# Altium schematic symbol library DAQSchlib.SchLib: 8 symbols
Pins are listed as number, name and electrical type; pins without a type are passive.

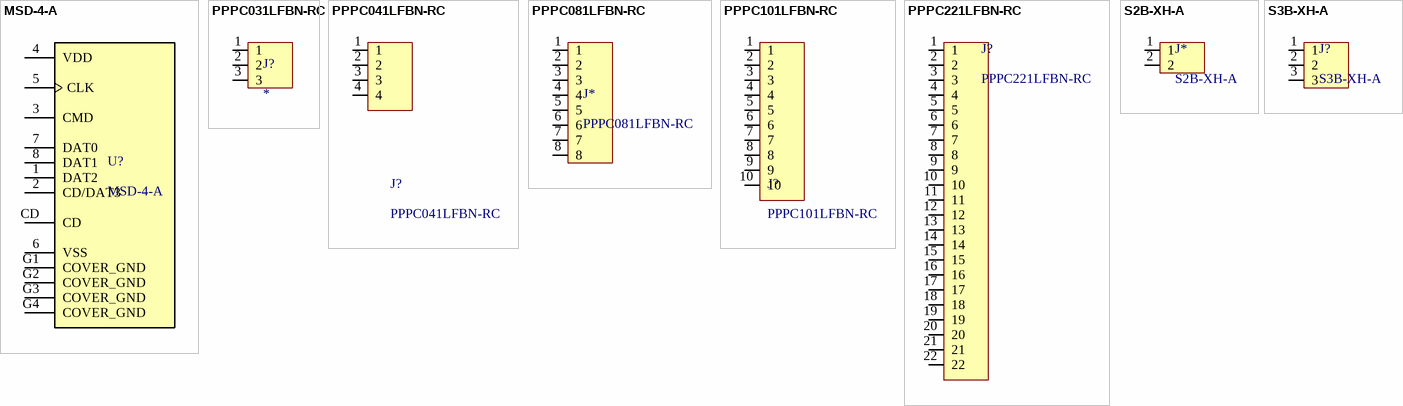
[diagram p0: symbols MSD-4-A to S3B-XH-A]

## MSD-4-A
designator U?
Memory & Sim Conn, Micro Sd, 9P, Push in Rohs Compliant: Yes; Manufacturer: Same Sky; Number of Contacts: 9; Supplier: DigiKey; Supplier Part Number: 2223-MSD-4-ACT-ND; Manufacturer Part Number: MSD-4-A; RoHS: Compliant; Category: Card Edge Connectors; Stock: 19060; Pricing: 1=0.36, 10=0.318, 25=0.3036, 50=0.2926, 100=0.2822, 250=0.26896, 500=0.25938 (USD); Lifecycle Status: Production; REACH SVHC: Yes; ComponentLink1URL: https://datasheet.octopart.com:443/MSD-4-A-Same-Sky-datasheet-188826395.pdf?src-supplier=Same+Sky; ComponentLink1Description: https://datasheet.octopart.com:443/MSD-4-A-Same-Sky-datasheet-188826395.pdf?src-supplier=Same+Sky; ComponentLink2URL: https://datasheet.octopart.com:443/MSD-4-A-Same-Sky-datasheet-181916841.pdf?src-supplier=Same+Sky; ComponentLink2Description: https://datasheet.octopart.com:443/MSD-4-A-Same-Sky-datasheet-181916841.pdf?src-supplier=Same+Sky; ComponentLink3URL: https://datasheet.octopart.com:443/MSD-4-A-Same-Sky-datasheet-181916843.pdf?src-supplier=Same+Sky; ComponentLink3Description: https://datasheet.octopart.com:443/MSD-4-A-Same-Sky-datasheet-181916843.pdf?src-supplier=Same+Sky; ComponentLink4URL: https://datasheet.octopart.com:443/MSD-4-A-Same-Sky-datasheet-190142353.pdf?src-supplier=element14+APAC; ComponentLink4Description: https://datasheet.octopart.com:443/MSD-4-A-Same-Sky-datasheet-190142353.pdf?src-supplier=element14+APAC; ComponentLink5URL: https://datasheet.octopart.com:443/MSD-4-A-Same-Sky-datasheet-187906758.pdf?src-supplier=Master+Electronics; ComponentLink5Description: https://datasheet.octopart.com:443/MSD-4-A-Same-Sky-datasheet-187906758.pdf?src-supplier=Master+Electronics; ComponentLink6URL: https://datasheet.octopart.com:443/MSD-4-A-Same-Sky-datasheet-189105038.pdf?src-supplier=Master+Electronics; ComponentLink6Description: https://datasheet.octopart.com:443/MSD-4-A-Same-Sky-datasheet-189105038.pdf?src-supplier=Master+Electronics; ComponentLink7URL: https://octopart.com:443/opatz8j6/c1?t=OklLJ3Cn6EJ58qiIsR4ETs59k0pdJoySAJ4KZqxoiusSZQYTb9S8pusi1kgkJn5eC7RsB0VALl2X_PnRwtqyvDB9WfpMQgoLmisnEu2FRjVmus4JdyiPcntT2ElvTa2Of7vsKFoACo-SfHWnp4OJdzR1DmxOxBkV3iRUkF5aYH_v20eMe6qpQUN2qCpoFUDPB6zoA_4aKyXfpmhYkePRKBkS7QLt_3LdaQQnbCvF_fANTX1CXXfyg_7OR_j_j_PKcPm-CB_VFeBUVIiUCcoA-Sa0tfkOnAOTqaF891NWlGE7F92Bh78ecS-7oOS_kN434D-9grUeGaxT0KruoTvjdSNsUoxpTdBTUQ&src-supplier=Compliance+Statements; ComponentLink7Description: https://octopart.com:443/opatz8j6/c1?t=OklLJ3Cn6EJ58qiIsR4ETs59k0pdJoySAJ4KZqxoiusSZQYTb9S8pusi1kgkJn5eC7RsB0VALl2X_PnRwtqyvDB9WfpMQgoLmisnEu2FRjVmus4JdyiPcntT2ElvTa2Of7vsKFoACo-SfHWnp4OJdzR1DmxOxBkV3iRUkF5aYH_v20eMe6qpQUN2qCpoFUDPB6zoA_4aKyXfpmhYkePRKBkS7QLt_3LdaQQnbCvF_fANTX1CXXfyg_7OR_j_j_PKcPm-CB_VFeBUVIiUCcoA-Sa0tfkOnAOTqaF891NWlGE7F92Bh78ecS-7oOS_kN434D-9grUeGaxT0KruoTvjdSNsUoxpTdBTUQ&src-supplier=Compliance+Statements; ComponentLink8URL: https://octopart.com:443/opatz8j6/c1?t=56VKgEEM5Ew_b_00VnAHw7m7J80biGly62Ot5MveOjJfWQiiiFo75OsdVL3D4ctiIjdn5qZd2GKSn4ysF2A2X9SB5PMX9rtFMLqOLzabYRrLW1sdJvZjNYOtT52_2pyWzszDwX6GT9AuysY_Kac0kr-nKqmfJaGQBFJ4GnLzMHt7nU83_GCq3q5bnzZvOe8VO7x6awYehHWuDfbSZSptEeVzJv9jqL2KHhRIzyb0l4El-_pmLBmXLl8q6t2RCz32btwZwTVfma5VOd_HWAJjK0S5XNNJTFLCtN6-e-vJLnB3S9C8OJldtEio3ep_838gUXxW9g0B7S6xUQkW2QSr6mdT9vw6YhCHQg&src-supplier=Compliance+Statements; ComponentLink8Description: https://octopart.com:443/opatz8j6/c1?t=56VKgEEM5Ew_b_00VnAHw7m7J80biGly62Ot5MveOjJfWQiiiFo75OsdVL3D4ctiIjdn5qZd2GKSn4ysF2A2X9SB5PMX9rtFMLqOLzabYRrLW1sdJvZjNYOtT52_2pyWzszDwX6GT9AuysY_Kac0kr-nKqmfJaGQBFJ4GnLzMHt7nU83_GCq3q5bnzZvOe8VO7x6awYehHWuDfbSZSptEeVzJv9jqL2KHhRIzyb0l4El-_pmLBmXLl8q6t2RCz32btwZwTVfma5VOd_HWAJjK0S5XNNJTFLCtN6-e-vJLnB3S9C8OJldtEio3ep_838gUXxW9g0B7S6xUQkW2QSr6mdT9vw6YhCHQg&src-supplier=Compliance+Statements
footprint CUI_MSD-4-A
pins: 1 DAT2, 2 CD/DAT3, 3 CMD, 4 VDD, 5 CLK, 6 VSS, 7 DAT0, 8 DAT1, CD, G1 COVER_GND (power), G2 COVER_GND (power), G3 COVER_GND (power), G4 COVER_GND (power)

## PPPC031LFBN-RC
designator J?
Board Connector, 3 Contact(s), 1 Row(s), Female, Straight, 0.1 inch Pitch, Solder Terminal, Locking; Manufacturer: Sullins; Manufacturer Part Number: PPPC031LFBN-RC; Connector Type: Header, Socket; Current Rating: 3A; Dielectric Material: Polyester; Number of Contacts: 3; Pitch: 2.54mm; Voltage Rating: 250V; Supplier: DigiKey; Supplier Part Number: S7036-ND; RoHS: Compliant; Category: Card Edge Connectors; Stock: 27245; Pricing: 1=0.31, 10=0.264, 100=0.2242, 500=0.20012, 1000=0.19056, 5000=0.17009, 10000=0.16197 (USD); Color: Black; Contact Gender: Female; Contact Material: Gold, Nickel; Contact Plating: Gold; Height: 8.7mm; Housing Material: Plastic; Lead Free: Lead Free; Length: 8.12mm; Lifecycle Status: Production; Max Operating Temperature: 105°C; Min Operating Temperature: -40°C; Mounting Technology: Through Hole; Pins: 3; Number of Positions: 3; Number of Rows: 1; Packaging: Bulk; REACH SVHC: Yes; Terminal Pitch: 2.54mm; Termination: Solder; Width: 2.5mm; ComponentLink1URL: https://datasheet.octopart.com:443/PPPC031LFBN-RC-Sullins-datasheet-138810743.pdf?src-supplier=IHS; ComponentLink1Description: https://datasheet.octopart.com:443/PPPC031LFBN-RC-Sullins-datasheet-138810743.pdf?src-supplier=IHS; ComponentLink2URL: https://sigma.octopart.com:443/83216130/technical_drawing/Sullins-PPPC031LFBN-RC.pdf?src-supplier=Upverter; ComponentLink2Description: https://sigma.octopart.com:443/83216130/technical_drawing/Sullins-PPPC031LFBN-RC.pdf?src-supplier=Upverter; ComponentLink3URL: https://datasheet.octopart.com:443/PPPC031LFBN-RC-Sullins-datasheet-41308905.pdf?src-supplier=Future+Electronics; ComponentLink3Description: https://datasheet.octopart.com:443/PPPC031LFBN-RC-Sullins-datasheet-41308905.pdf?src-supplier=Future+Electronics; ComponentLink4URL: https://datasheet.octopart.com:443/PPPC031LFBN-RC-Sullins-datasheet-12511165.pdf?src-supplier=Future+Electronics; ComponentLink4Description: https://datasheet.octopart.com:443/PPPC031LFBN-RC-Sullins-datasheet-12511165.pdf?src-supplier=Future+Electronics
footprint PPPC031LFBN-RC
pins: 1, 2, 3

## PPPC041LFBN-RC
designator J?
Conn Socket Strip F 4 POS 2.54mm Solder ST Top Entry Thru-Hole; Manufacturer: Sullins; Connector Type: Header, Socket; Current Rating: 3A; Dielectric Material: Polyester; Number of Positions: 4; Supplier: DigiKey; Supplier Part Number: S7037-ND; Manufacturer Part Number: PPPC041LFBN-RC; RoHS: Compliant; Category: Card Edge Connectors; Stock: 30890; Pricing: 1=0.38, 10=0.321, 100=0.2724, 500=0.24312, 1000=0.23151, 5000=0.20664, 10000=0.19678 (USD); Color: Black; Contact Gender: Female; Contact Material: Bronze; Contact Plating: Gold; Height: 8.5mm; Housing Material: Plastic; Lead Free: Lead Free; Length: 10.7mm; Lifecycle Status: Production; Mounting Technology: Through Hole; Pins: 4; Number of Rows: 1; Packaging: Bulk; Pitch: 2.54mm; REACH SVHC: Yes; Terminal Pitch: 2.54mm; Termination: Solder; Width: 2.5mm; ComponentLink1URL: https://datasheet.octopart.com:443/PPPC041LFBN-RC-Sullins-datasheet-138810743.pdf?src-supplier=IHS; ComponentLink1Description: https://datasheet.octopart.com:443/PPPC041LFBN-RC-Sullins-datasheet-138810743.pdf?src-supplier=IHS; ComponentLink2URL: https://datasheet.octopart.com:443/PPPC041LFBN-RC-Sullins-datasheet-41308905.pdf?src-supplier=Future+Electronics; ComponentLink2Description: https://datasheet.octopart.com:443/PPPC041LFBN-RC-Sullins-datasheet-41308905.pdf?src-supplier=Future+Electronics; ComponentLink3URL: https://datasheet.octopart.com:443/PPPC041LFBN-RC-Sullins-datasheet-12511165.pdf?src-supplier=Future+Electronics; ComponentLink3Description: https://datasheet.octopart.com:443/PPPC041LFBN-RC-Sullins-datasheet-12511165.pdf?src-supplier=Future+Electronics
footprint PPPC041LFBN-RC
pins: 1, 2, 3, 4

## PPPC081LFBN-RC
designator J*
CONN HDR 8POS 0.1 GOLD PCB; Manufacturer: Sullins; Description: Female, 8C, Straight, .100"CC; 3.20mm Tail, No Mounting; PBT, Phos. Bronze, 105 C; Connector Type: Header, Socket; Current Rating: 3A; Dielectric Material: Polyester; Gender: Female; Number of Contacts: 8; Pitch: 2.54mm; Voltage Rating: 250V; Supplier: DigiKey; Supplier Part Number: S7041-ND; Manufacturer Part Number: PPPC081LFBN-RC; RoHS: Compliant; Category: Headers and Wire Housings; Stock: 10969; Pricing: 1=0.6, 10=0.509, 100=0.4323, 500=0.38584, 1000=0.3674, 5000=0.32795, 10000=0.31231 (USD); Case/Package: TO-252-3; Color: Black; Contact Material: Gold, Nickel; Contact Plating: Gold; Export Control Classification Number (ECCN) Code: EAR99; Height: 2.39mm; Housing Material: Plastic; Harmonized Tariff Schedule (HTS) Code: 8536.69.40.40; Introduction Date: 2008-05-14; Lead Free: Lead Free; Length: 6.73mm; Lifecycle Status: Production; Max Operating Temperature: 105°C; Min Operating Temperature: -40°C; Mounting Technology: Surface Mount; Number of Positions: 8; Number of Rows: 1; Packaging: Tape and Reel; Radiation Hardening: No; REACH SVHC: Yes; Terminal Pitch: 2.54mm; Termination: Solder; Width: 6.22mm; ComponentLink1URL: https://datasheet.octopart.com:443/PPPC081LFBN-RC-Sullins-datasheet-138810743.pdf?src-supplier=IHS; ComponentLink1Description: https://datasheet.octopart.com:443/PPPC081LFBN-RC-Sullins-datasheet-138810743.pdf?src-supplier=IHS; ComponentLink2URL: https://datasheet.octopart.com:443/PPPC081LFBN-RC-Sullins-datasheet-41308905.pdf?src-supplier=Upverter; ComponentLink2Description: https://datasheet.octopart.com:443/PPPC081LFBN-RC-Sullins-datasheet-41308905.pdf?src-supplier=Upverter; ComponentLink3URL: https://sigma.octopart.com:443/83216130/technical_drawing/Sullins-PPPC081LFBN-RC.pdf?src-supplier=Upverter; ComponentLink3Description: https://sigma.octopart.com:443/83216130/technical_drawing/Sullins-PPPC081LFBN-RC.pdf?src-supplier=Upverter; ComponentLink4URL: https://datasheet.octopart.com:443/PPPC081LFBN-RC-Sullins-datasheet-12511165.pdf?src-supplier=Future+Electronics; ComponentLink4Description: https://datasheet.octopart.com:443/PPPC081LFBN-RC-Sullins-datasheet-12511165.pdf?src-supplier=Future+Electronics
footprint PPPC081LFBN-RC
pins: 1, 2, 3, 4, 5, 6, 7, 8

## PPPC101LFBN-RC
designator J?
Conn Socket Strip F 10 POS 2.54mm Solder ST Top Entry Thru-Hole; Manufacturer: Sullins; Connector Type: Header, Socket; Current Rating: 3A; Dielectric Material: Polyester; Number of Contacts: 10; Voltage Rating: 250V; Supplier: DigiKey; Supplier Part Number: S7043-ND; Manufacturer Part Number: PPPC101LFBN-RC; RoHS: Compliant; Category: Card Edge Connectors; Stock: 25256; Pricing: 1=0.58, 10=0.493, 100=0.4193, 500=0.37422, 1000=0.35634, 5000=0.31808, 10000=0.3042 (USD); Color: Black; Contact Gender: Female; Contact Material: Gold, Nickel; Contact Plating: Gold; Height: 8.7mm; Housing Material: Plastic; Lead Free: Lead Free; Length: 25.9mm; Lifecycle Status: Production; Max Operating Temperature: 105°C; Min Operating Temperature: -40°C; Mounting Technology: Through Hole; Pins: 10; Number of Positions: 10; Number of Rows: 1; Packaging: Bulk; Pitch: 2.54mm; REACH SVHC: Yes; Terminal Pitch: 2.54mm; Termination: Solder; Width: 2.5mm; ComponentLink1URL: https://datasheet.octopart.com:443/PPPC101LFBN-RC-Sullins-datasheet-138810743.pdf?src-supplier=IHS; ComponentLink1Description: https://datasheet.octopart.com:443/PPPC101LFBN-RC-Sullins-datasheet-138810743.pdf?src-supplier=IHS; ComponentLink2URL: https://sigma.octopart.com:443/83216130/technical_drawing/Sullins-PPPC101LFBN-RC.pdf?src-supplier=Upverter; ComponentLink2Description: https://sigma.octopart.com:443/83216130/technical_drawing/Sullins-PPPC101LFBN-RC.pdf?src-supplier=Upverter; ComponentLink3URL: https://datasheet.octopart.com:443/PPPC101LFBN-RC-Sullins-datasheet-41308905.pdf?src-supplier=Future+Electronics; ComponentLink3Description: https://datasheet.octopart.com:443/PPPC101LFBN-RC-Sullins-datasheet-41308905.pdf?src-supplier=Future+Electronics; ComponentLink4URL: https://datasheet.octopart.com:443/PPPC101LFBN-RC-Sullins-datasheet-12511165.pdf?src-supplier=Future+Electronics; ComponentLink4Description: https://datasheet.octopart.com:443/PPPC101LFBN-RC-Sullins-datasheet-12511165.pdf?src-supplier=Future+Electronics
footprint PPPC101LFBN-RC
pins: 1, 2, 3, 4, 5, 6, 7, 8, 9, 10

## PPPC221LFBN-RC
designator J?
22 Position 1 Row 2.54 mm Pitch Through Hole Female Socket Through Hole Header; Manufacturer: Sullins; Connector Type: Header, Socket; Current Rating: 3A; Dielectric Material: Polyester; Number of Positions: 22; Pitch: 2.54mm; Supplier: DigiKey; Supplier Part Number: S7055-ND; Manufacturer Part Number: PPPC221LFBN-RC; RoHS: Compliant; Category: Card Edge Connectors; Stock: 1982; Pricing: 1=1.24, 10=1.056, 100=0.8975, 500=0.8011, 1000=0.76285, 5000=0.6994 (USD); Color: Black; Contact Gender: Female; Contact Material: Bronze; Contact Plating: Gold; Height: 8.5mm; Housing Material: Plastic; Lead Free: Lead Free; Length: 56.4mm; Lifecycle Status: Production; Mounting Technology: Through Hole; Pins: 22; Number of Rows: 1; Packaging: Bulk; REACH SVHC: Yes; Terminal Pitch: 2.54mm; Termination: Solder; Width: 2.5mm; ComponentLink1URL: https://datasheet.octopart.com:443/PPPC221LFBN-RC-Sullins-datasheet-138810743.pdf?src-supplier=IHS; ComponentLink1Description: https://datasheet.octopart.com:443/PPPC221LFBN-RC-Sullins-datasheet-138810743.pdf?src-supplier=IHS; ComponentLink2URL: https://datasheet.octopart.com:443/PPPC221LFBN-RC-Sullins-datasheet-47864048.pdf?src-supplier=Future+Electronics; ComponentLink2Description: https://datasheet.octopart.com:443/PPPC221LFBN-RC-Sullins-datasheet-47864048.pdf?src-supplier=Future+Electronics; ComponentLink3URL: https://datasheet.octopart.com:443/PPPC221LFBN-RC-Sullins-datasheet-12511165.pdf?src-supplier=Factory+Futures; ComponentLink3Description: https://datasheet.octopart.com:443/PPPC221LFBN-RC-Sullins-datasheet-12511165.pdf?src-supplier=Factory+Futures
footprint PPPC221LFBN-RC
pins: 1, 2, 3, 4, 5, 6, 7, 8, 9, 10, 11, 12, 13, 14, 15, 16, 17, 18, 19, 20, 21, 22

## S2B-XH-A
designator J*
Board Connector, 2 Contact(s), 1 Row(s), Male, Right Angle, Solder Terminal; Manufacturer: JST; Contact Resistance: 20mΩ; Current Rating: 3A; Insulation Resistance: 1GΩ; Number of Poles: 2; Pitch: 2.5mm; Supplier: DigiKey; Supplier Part Number: 455-S2B-XH-A-ND; Manufacturer Part Number: S2B-XH-A; RoHS: Compliant; Category: Card Edge Connectors; Stock: 27070; Pricing: 1=0.14, 10=0.12, 100=0.1019, 500=0.09094, 1000=0.08658, 5000=0.07728, 10000=0.07359 (USD); Color: White; Contact Material: Bronze; Contact Plating: Copper, Lead, Tin; Export Control Classification Number (ECCN) Code: EAR99; Gender: Male; Height: 6.1mm; Harmonized Tariff Schedule (HTS) Code: 8536.69.40.40; Introduction Date: 1997-11-01; Length: 7.4mm; Lifecycle Status: Production; Max Operating Temperature: 85°C; Min Operating Temperature: -25°C; Mounting Technology: Through Hole; Number of Positions: 2; Number of Rows: 1; Terminal Pitch: 2.5mm; Width: 11.5mm; ComponentLink1URL: https://datasheet.octopart.com:443/S2B-XH-A-JST-datasheet-157850277.pdf?src-supplier=IHS; ComponentLink1Description: https://datasheet.octopart.com:443/S2B-XH-A-JST-datasheet-157850277.pdf?src-supplier=IHS
footprint JST_S2B-XH-A
pins: 1, 2

## S3B-XH-A
designator J?
Board Connector, 3 Contact(s), 1 Row(s), Male, Right Angle, Solder Terminal; Manufacturer: JST; Contact Resistance: 20mΩ; Current Rating: 3A; Insulation Resistance: 1GΩ; Number of Contacts: 3; Supplier: DigiKey; Supplier Part Number: 455-S3B-XH-A-ND; Manufacturer Part Number: S3B-XH-A; RoHS: Compliant; Category: Card Edge Connectors; Stock: 62900; Pricing: 1=0.15, 10=0.126, 100=0.1068, 500=0.09526, 1000=0.09071, 5000=0.08096, 10000=0.07709 (USD); Contact Gender: Male; Contact Material: Brass; Contact Plating: Tin; Gender: Male; Lifecycle Status: Production; Max Operating Temperature: 85°C; Min Operating Temperature: -25°C; Pins: 3; Number of Rows: 1; REACH SVHC: No; Terminal Pitch: 2.5mm; Termination: Through Hole; ComponentLink1URL: https://datasheet.octopart.com:443/S3B-XH-A-JST-datasheet-157850277.pdf?src-supplier=IHS; ComponentLink1Description: https://datasheet.octopart.com:443/S3B-XH-A-JST-datasheet-157850277.pdf?src-supplier=IHS; ComponentLink2URL: https://datasheet.octopart.com:443/S3B-XH-A-JST-datasheet-10026044.pdf?src-supplier=element14+APAC; ComponentLink2Description: https://datasheet.octopart.com:443/S3B-XH-A-JST-datasheet-10026044.pdf?src-supplier=element14+APAC
footprint JST_S3B-XH-A
pins: 1, 2, 3